# Altium schematic symbol library 2004850210.SchLib: 2 symbols
Pins are listed as number, name and electrical type; pins without a type are passive.

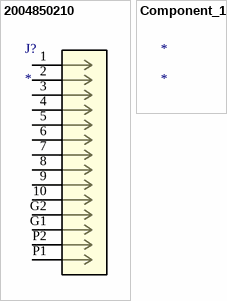
[diagram p0: symbols 2004850210 to Component_1]

## 2004850210
designator J?
No Description Available; Mfr_Name: Molex Connector Corporation; RefDes: RefDes; Type: Type
footprint CON_2004850210
pins: 1, 2, 3, 4, 5, 6, 7, 8, 9, 10, G1, G2, P1, P2

## Component_1
designator *